# Altium footprint library ZN28120BA1.PcbLib: 1 footprints
Each footprint in its own frame and in the unit in brackets; x right, y up, seen from the top. Pads: shape width x height; smd on the part's side, far side on the other; paste and mask are expansions set on the pad; w line width, h text height; cw(c..) or ccw(c..) is an arc to the next point about the centre after c.
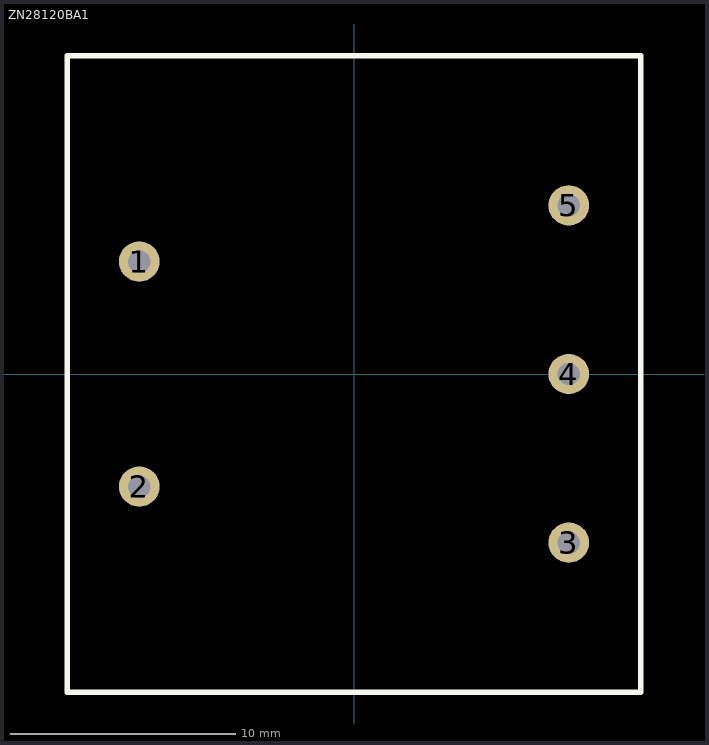
[diagram p0: the footprint, top view; thin cyan lines are the x and y axes]

## ZN28120BA1 [mm]
pads (5):
  round 1.8 hole 1: 1(-9.55,5) 2(-9.55,-5.006) 3(9.55,-7.5) 4(9.55,0) 5(9.55,7.5)
Top Overlay:
  lines w0.254: -12.75,-14.15 12.75,-14.15 12.75,14.15 -12.75,14.15 -12.75,-14.15